# Altium footprint library PCB - CONNECTOR - WURTH - WURTH MMCX 66012202111305.PcbLib: 1 footprints
Each footprint in its own frame and in the unit in brackets; x right, y up, seen from the top. Pads: shape width x height; smd on the part's side, far side on the other; paste and mask are expansions set on the pad; w line width, h text height; cw(c..) or ccw(c..) is an arc to the next point about the centre after c.
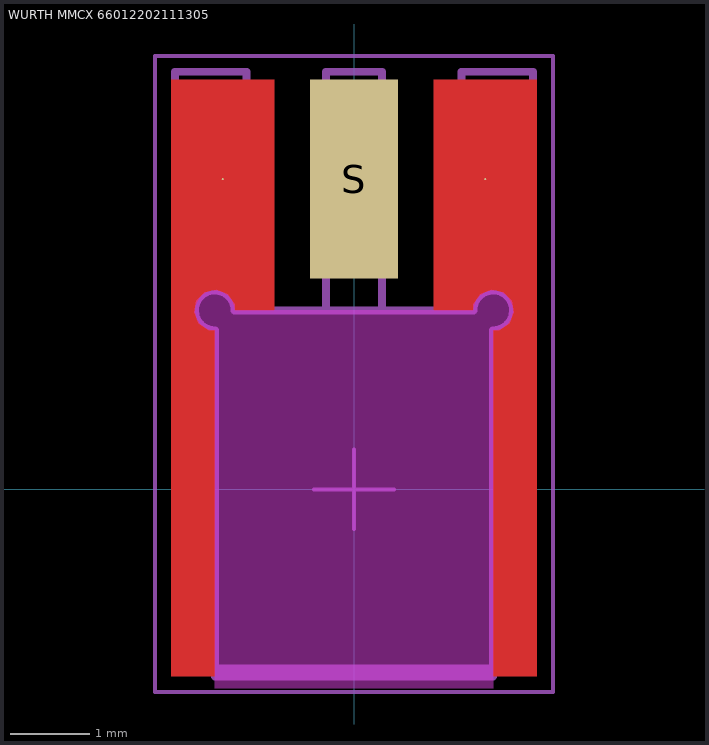
[diagram p0: the footprint, top view; thin cyan lines are the x and y axes]

## WURTH MMCX 66012202111305 [mm] "MMCX PCB End Launch Jack"
height 3.5
pads (3):
  round 0.025 smd: G(-1.65,3.9) G(1.65,3.9)
  rect 1.1x2.5 smd: S(0,3.9)
Top Layer:
  region: 2.3,-2.35 2.3,5.15 1,5.15 1,2.25 1.5,2.25 1.502,2.279 1.515,2.337 1.542,2.389 1.58,2.434 1.628,2.468 1.682,2.491 1.74,2.5 1.799,2.495 1.855,2.477 1.905,2.446 1.946,2.405 1.977,2.355 1.995,2.299 2,2.24 1.991,2.182 1.968,2.128 1.934,2.08 1.889,2.042 1.837,2.015 1.779,2.002 1.75,2 1.75,-2.35
  region: -2.3,-2.35 -2.3,5.15 -1,5.15 -1,2.25 -1.5,2.25 -1.502,2.279 -1.515,2.337 -1.542,2.389 -1.58,2.434 -1.628,2.468 -1.682,2.491 -1.74,2.5 -1.799,2.495 -1.855,2.477 -1.905,2.446 -1.946,2.405 -1.977,2.355 -1.995,2.299 -2,2.24 -1.991,2.182 -1.968,2.128 -1.934,2.08 -1.889,2.042 -1.837,2.015 -1.779,2.002 -1.75,2 -1.75,-2.35
Keep-Out Layer:
  board cut-out: -1.75,-2.5 1.75,-2.5 1.75,2 1.826,2 1.952,2.084 2.01,2.224 1.98,2.373 1.873,2.48 1.724,2.51 1.584,2.452 1.5,2.326 1.5,2.25 -1.5,2.25 -1.5,2.326 -1.584,2.452 -1.724,2.51 -1.873,2.48 -1.98,2.373 -2.01,2.224 -1.952,2.084 -1.826,2 -1.75,2
Top 3D Body:
  lines w0.1: 2.25,2.25 2.25,5.25 ; 2.25,2.25 2.25,-2.25 -2.25,-2.25 -2.25,2.25 -2.25,5.25 -1.35,5.25 -1.35,2.25 -0.35,2.25 -0.35,5.25 0.35,5.25 0.35,2.25 1.35,2.25 1.35,5.25 2.25,5.25 ; 2.25,2.25 2.25,5.25
Bottom 3D Body:
  lines w0.1: -1.75,-2.35 1.75,-2.35 1.75,2 ccw(c1.75,2.25) 1.5,2.25 -1.5,2.25 ccw(c-1.75,2.25) -1.75,2 -1.75,-2.35
  text "PCB Cutout" at -1.5,-0.25 h0.38
Top Component Outline:
  lines w0.1: 2.25,2.25 2.25,5.25 ; 2.25,2.25 2.25,-2.25 -2.25,-2.25 -2.25,2.25 -2.25,5.25 -1.35,5.25 -1.35,2.25 -0.35,2.25 -0.35,5.25 0.35,5.25 0.35,2.25 1.35,2.25 1.35,5.25 2.25,5.25 ; 2.25,2.25 2.25,5.25
Top Courtyard:
  lines w0.05: -0.5,0 0.5,0 ; 0,-0.5 0,0.5 ; -2.5,-2.55 2.5,-2.55 2.5,5.45 -2.5,5.45 -2.5,-2.55
3D body "Wurth 66012202111305.step": height 2.1, standoff -1.4, extent -2.25,-2.25 2.25,5.25